# EAGLE library part P0082 (library P0082)
EP4CE22F17C6N Cyclone® IV FPGA Evaluation Board Check prices <https://pricing.snapeda.com/parts/P0082/Terasic%20Inc./view-part?ref=eda>
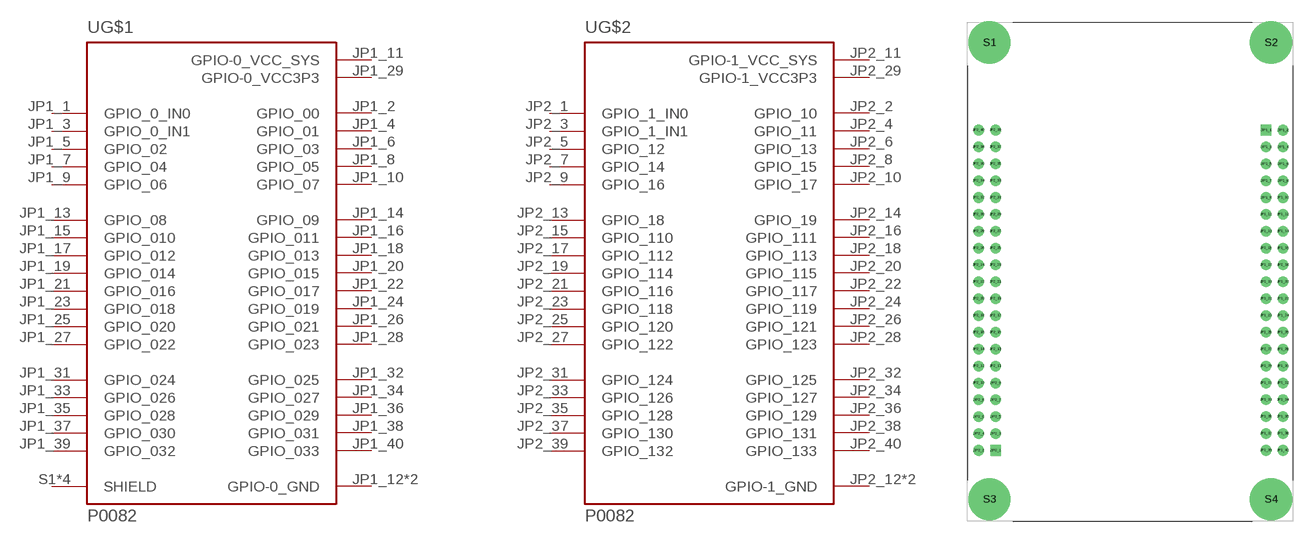
[diagram p0: symbol with the pads of MODULE_P0082_BOTTOMMOUNT; footprint MODULE_P0082_BOTTOMMOUNT]

Designator prefix U; gates G$1=P0082_GPIO-0 G$2=P0082_GPIO-1

## P0082 (DESCRIPTION: EP4CE22F17C6N Cyclone® IV FPGA Evaluation Board; MF: Terasic Inc.; MP: P0082; PACKAGE: None; PRICE: None)  [MODULE_P0082_BOTTOMMOUNT]
JP1_1  G$1:GPIO_0_IN0
JP1_2  G$1:GPIO_00
JP1_3  G$1:GPIO_0_IN1
JP1_4  G$1:GPIO_01
JP1_5  G$1:GPIO_02
JP1_6  G$1:GPIO_03
JP1_7  G$1:GPIO_04
JP1_8  G$1:GPIO_05
JP1_9  G$1:GPIO_06
JP1_10  G$1:GPIO_07
JP1_11  G$1:GPIO-0_VCC_SYS  pwr
JP1_12  G$1:GPIO-0_GND  pwr
JP1_13  G$1:GPIO_08
JP1_14  G$1:GPIO_09
JP1_15  G$1:GPIO_010
JP1_16  G$1:GPIO_011
JP1_17  G$1:GPIO_012
JP1_18  G$1:GPIO_013
JP1_19  G$1:GPIO_014
JP1_20  G$1:GPIO_015
JP1_21  G$1:GPIO_016
JP1_22  G$1:GPIO_017
JP1_23  G$1:GPIO_018
JP1_24  G$1:GPIO_019
JP1_25  G$1:GPIO_020
JP1_26  G$1:GPIO_021
JP1_27  G$1:GPIO_022
JP1_28  G$1:GPIO_023
JP1_29  G$1:GPIO-0_VCC3P3  pwr
JP1_30  G$1:GPIO-0_GND  pwr
JP1_31  G$1:GPIO_024
JP1_32  G$1:GPIO_025
JP1_33  G$1:GPIO_026
JP1_34  G$1:GPIO_027
JP1_35  G$1:GPIO_028
JP1_36  G$1:GPIO_029
JP1_37  G$1:GPIO_030
JP1_38  G$1:GPIO_031
JP1_39  G$1:GPIO_032
JP1_40  G$1:GPIO_033
JP2_1  G$2:GPIO_1_IN0
JP2_2  G$2:GPIO_10
JP2_3  G$2:GPIO_1_IN1
JP2_4  G$2:GPIO_11
JP2_5  G$2:GPIO_12
JP2_6  G$2:GPIO_13
JP2_7  G$2:GPIO_14
JP2_8  G$2:GPIO_15
JP2_9  G$2:GPIO_16
JP2_10  G$2:GPIO_17
JP2_11  G$2:GPIO-1_VCC_SYS  pwr
JP2_12  G$2:GPIO-1_GND  pwr
JP2_13  G$2:GPIO_18
JP2_14  G$2:GPIO_19
JP2_15  G$2:GPIO_110
JP2_16  G$2:GPIO_111
JP2_17  G$2:GPIO_112
JP2_18  G$2:GPIO_113
JP2_19  G$2:GPIO_114
JP2_20  G$2:GPIO_115
JP2_21  G$2:GPIO_116
JP2_22  G$2:GPIO_117
JP2_23  G$2:GPIO_118
JP2_24  G$2:GPIO_119
JP2_25  G$2:GPIO_120
JP2_26  G$2:GPIO_121
JP2_27  G$2:GPIO_122
JP2_28  G$2:GPIO_123
JP2_29  G$2:GPIO-1_VCC3P3  pwr
JP2_30  G$2:GPIO-1_GND  pwr
JP2_31  G$2:GPIO_124
JP2_32  G$2:GPIO_125
JP2_33  G$2:GPIO_126
JP2_34  G$2:GPIO_127
JP2_35  G$2:GPIO_128
JP2_36  G$2:GPIO_129
JP2_37  G$2:GPIO_130
JP2_38  G$2:GPIO_131
JP2_39  G$2:GPIO_132
JP2_40  G$2:GPIO_133
S1  G$1:SHIELD  pas
S2  G$1:SHIELD  pas
S3  G$1:SHIELD  pas
S4  G$1:SHIELD  pas

## Footprint MODULE_P0082_BOTTOMMOUNT (pad centres in mm)
drill 1.06 square: JP1_1 20.45,21.33; JP2_1 -20.32,-26.93
drill 1.06: JP1_2 22.99,21.33; JP1_3 20.45,18.79; JP1_4 22.99,18.79; JP1_5 20.45,16.25; JP1_6 22.99,16.25; JP1_7 20.45,13.71; JP1_8 22.99,13.71; JP1_9 20.45,11.17; JP1_10 22.99,11.17; JP1_11 20.45,8.63; JP1_12 22.99,8.63; JP1_13 20.45,6.09; JP1_14 22.99,6.09; JP1_15 20.45,3.55; JP1_16 22.99,3.55; JP1_17 20.45,1.01; JP1_18 22.99,1.01; JP1_19 20.45,-1.53; JP1_20 22.99,-1.53; JP1_21 20.45,-4.07; JP1_22 22.99,-4.07; JP1_23 20.45,-6.61; JP1_24 22.99,-6.61; JP1_25 20.45,-9.15; JP1_26 22.99,-9.15; JP1_27 20.45,-11.69; JP1_28 22.99,-11.69; JP1_29 20.45,-14.23; JP1_30 22.99,-14.23; JP1_31 20.45,-16.77; JP1_32 22.99,-16.77; JP1_33 20.45,-19.31; JP1_34 22.99,-19.31; JP1_35 20.45,-21.85; JP1_36 22.99,-21.85; JP1_37 20.45,-24.39; JP1_38 22.99,-24.39; JP1_39 20.45,-26.93; JP1_40 22.99,-26.93; JP2_2 -22.86,-26.93; JP2_3 -20.32,-24.39; JP2_4 -22.86,-24.39; JP2_5 -20.32,-21.85; JP2_6 -22.86,-21.85; JP2_7 -20.32,-19.31; JP2_8 -22.86,-19.31; JP2_9 -20.32,-16.77; JP2_10 -22.86,-16.77; JP2_11 -20.32,-14.23; JP2_12 -22.86,-14.23; JP2_13 -20.32,-11.69; JP2_14 -22.86,-11.69; JP2_15 -20.32,-9.15; JP2_16 -22.86,-9.15; JP2_17 -20.32,-6.61; JP2_18 -22.86,-6.61; JP2_19 -20.32,-4.07; JP2_20 -22.86,-4.07; JP2_21 -20.32,-1.53; JP2_22 -22.86,-1.53; JP2_23 -20.32,1.01; JP2_24 -22.86,1.01; JP2_25 -20.32,3.55; JP2_26 -22.86,3.55; JP2_27 -20.32,6.09; JP2_28 -22.86,6.09; JP2_29 -20.32,8.63; JP2_30 -22.86,8.63; JP2_31 -20.32,11.17; JP2_32 -22.86,11.17; JP2_33 -20.32,13.71; JP2_34 -22.86,13.71; JP2_35 -20.32,16.25; JP2_36 -22.86,16.25; JP2_37 -20.32,18.79; JP2_38 -22.86,18.79; JP2_39 -20.32,21.33; JP2_40 -22.86,21.33
drill 3.2 pad 6.35: S1 -21.21,34.54; S2 21.21,34.54; S3 -21.21,-34.29; S4 21.21,-34.29